# Altium footprint library CE_16X31.5.PcbLib: 1 footprints
Each footprint in its own frame and in the unit in brackets; x right, y up, seen from the top. Pads: shape width x height; smd on the part's side, far side on the other; paste and mask are expansions set on the pad; w line width, h text height; cw(c..) or ccw(c..) is an arc to the next point about the centre after c.
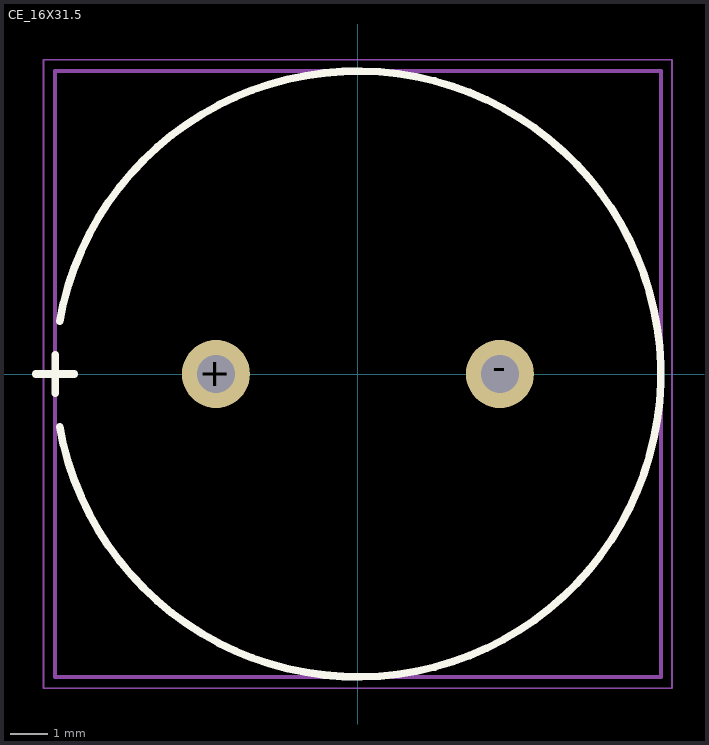
[diagram p0: the footprint, top view; thin cyan lines are the x and y axes]

## CE_16X31.5 [mm]
height 31.5
pads (2):
  round 1.8 hole 1: +(-3.75,0) -(3.75,0)
Top Overlay:
  lines w0.2: -8.508,0 -7.492,0 ; -8,-0.508 -8,0.508 ; -7.878,-1.389 ccw(c0,0) -7.878,1.389
Top Assembly:
  lines w0.1: -8,-8 -8,8 8.002,8 8.002,-8 -8,-8
Top Courtyard:
  lines w0.05: -8.3,-8.3 8.3,-8.3 8.3,8.3 -8.3,8.3 -8.3,-8.3
Top Designator:
  text ".Designator" at -7.618,-0.508 h1.52
3D body "User Library-Cap-EL(16x31_5-7_5)T.STEP": height 41, standoff -3, extent -8,-8 8.002,8